# Altium footprint library ecorunnerConnectors16_17.PcbLib: 4 footprints
Each footprint in its own frame and in the unit in brackets; x right, y up, seen from the top. Pads: shape width x height; smd on the part's side, far side on the other; paste and mask are expansions set on the pad; w line width, h text height; cw(c..) or ccw(c..) is an arc to the next point about the centre after c.
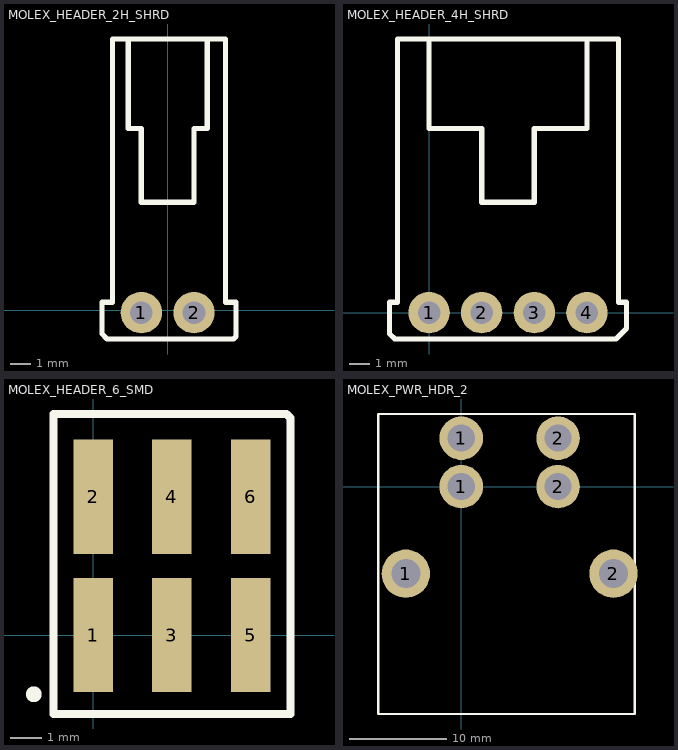
[diagram p0: the footprints below, top view; thin cyan lines are the x and y axes]

## MOLEX_HEADER_2H_SHRD [mm]
pads (2):
  round 2 hole 1.09 unplated: 1(-1.27,-0.127) 2(1.27,-0.127)
Top Overlay:
  lines w0.254: -3.175,-1.143 -2.921,-1.397 3.175,-1.397 3.302,-1.27 3.302,0.381 2.794,0.381 2.794,13.081 -2.667,13.081 -2.667,0.381 -3.175,0.381 -3.175,-1.143 ; -1.905,8.763 -1.27,8.763 -1.27,5.207 1.27,5.207 1.27,8.763 1.905,8.763 1.905,13.081 -1.143,13.081 -1.397,13.081 -1.905,13.081 -1.905,8.89 -1.905,8.763
3D body "705530001.stp": height 7.06, standoff -3.22, extent -3.683,-0.825 3.683,12.763

## MOLEX_HEADER_4H_SHRD [mm]
pads (4):
  round 2 hole 1.09 unplated: 1(0,0) 2(2.54,0) 3(5.08,0) 4(7.62,0)
Top Overlay:
  lines w0.254: -1.905,-1.016 -1.651,-1.27 9.017,-1.27 9.525,-0.762 9.525,0.508 9.144,0.508 9.144,13.208 -1.524,13.208 -1.524,0.508 -1.905,0.508 -1.905,-1.016 ; -0.127,13.208 0,13.208 0,9.652 0,8.89 2.54,8.89 2.54,5.334 5.08,5.334 5.08,8.89 7.62,8.89 7.62,13.208 0.127,13.208 -0.127,13.208
3D body "705530003.stp": height 7.06, standoff -3.22, extent -2.54,-0.698 10.16,12.89

## MOLEX_HEADER_6_SMD [mm] "Part Number: 15-91-0060"
pads (6):
  rect 1.27x3.68 smd: 1(0,0) 2(0,4.445) 3(2.54,0) 4(2.54,4.445) 5(5.08,0) 6(5.08,4.445)
Top Overlay:
  circle w0.254: c-1.905,-1.905 r0.127
  lines w0.254: -1.27,-2.54 6.35,-2.54 6.35,6.985 6.223,7.112 -1.27,7.112 -1.27,-2.54
3D body "015910060.stp": height 9.64, standoff -0.01, extent -1.143,-1.333 6.477,5.652

## MOLEX_PWR_HDR_2 [mm] "Part Number: 42820-2214    10.00mm Pitch Mini-Fit Sr.™ Header, Single Row, Right Angle, 1.57mm PCB Thickness, Silver (Ag) Plating, 2 Circuits"
pads (6):
  round 5 hole 3 unplated: 1(-5.73,-9) 2(15.73,-9)
  round 4.5 hole 2.8 unplated: 1(0,0) 1(0,5) 2(10,0) 2(10,5)
Top Overlay:
  lines w0.254: -8.57,-23.5 -8.57,7.5 17.93,7.5 17.93,-23.5 -8.57,-23.5
3D body "428202214.stp": height 14, standoff -4.35, extent -6.98,-22.5 16.84,6.6